# Altium footprint library fyshlib.PcbLib: 9 footprints
Each footprint in its own frame and in the unit in brackets; x right, y up, seen from the top. Pads: shape width x height; smd on the part's side, far side on the other; paste and mask are expansions set on the pad; w line width, h text height; cw(c..) or ccw(c..) is an arc to the next point about the centre after c.
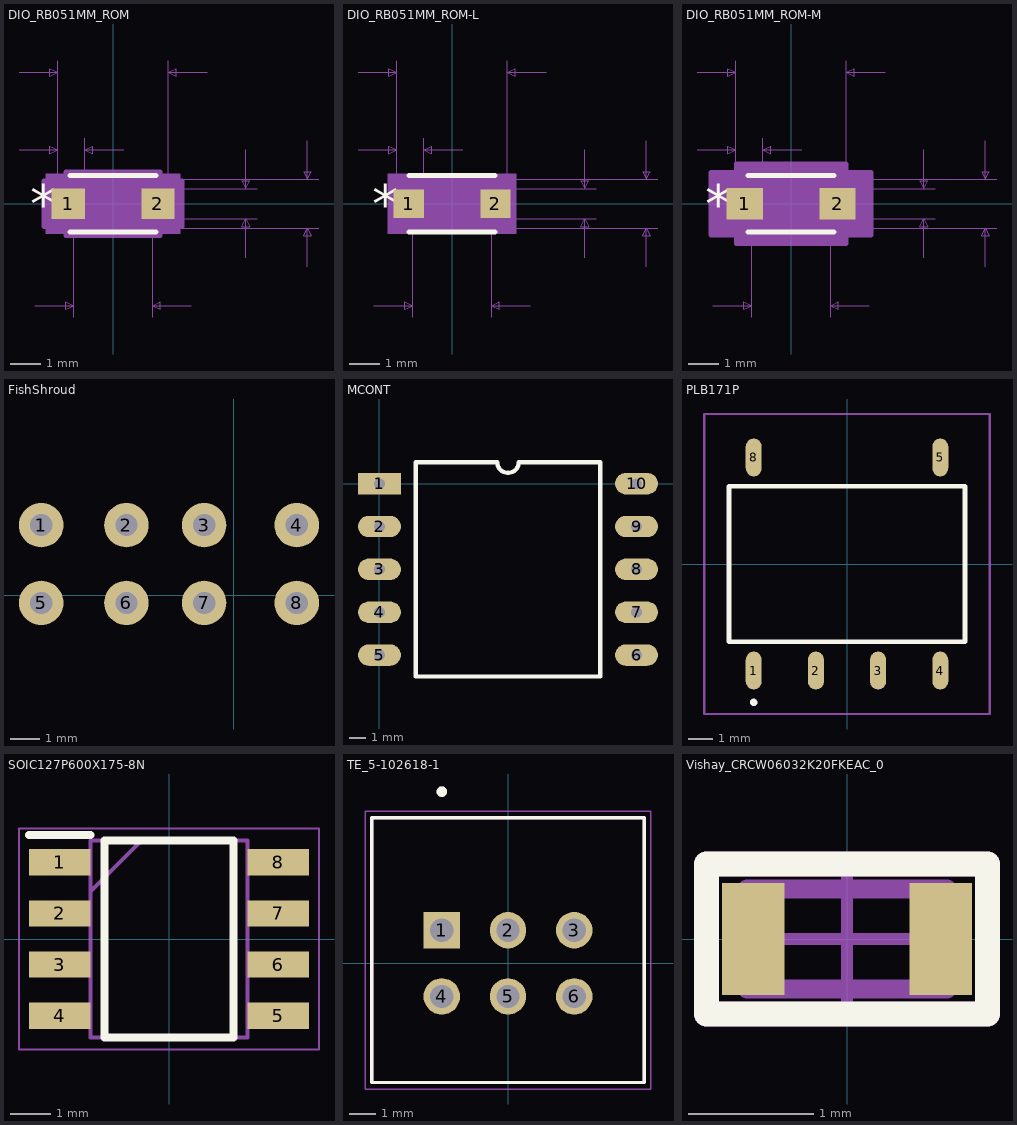
[diagram p0: the footprints below, top view; thin cyan lines are the x and y axes]

## DIO_RB051MM_ROM [mil]
pads (2):
  rect 43x39 smd paste+0 mask+0: 1(-58,0) 2(58,0)
Top Overlay:
  lines w6: -56,-36.5 56,-36.5 ; -56,36.5 56,36.5
  text "*" at -107,-25 h50
Mechanical 5:
  region: 87,-39 -87,-39 -87,39 87,39
Mechanical 7:
  lines w1: -121.5,69.5 -71.5,69.5 ; -121.5,169.5 -71.5,169.5 ; -101,-131.5 -51,-131.5 ; -71.5,84.5 -71.5,0 -71.5,184.5 ; -51,-146.5 -51,0 ; -36.5,0 -36.5,84.5 ; 0,-31.5 266,-31.5 ; 0,31.5 266,31.5 ; 13.5,69.5 -36.5,69.5 ; 51,-146.5 51,0 ; 71.5,-19.5 186.5,-19.5 ; 71.5,0 71.5,184.5 ; 71.5,19.5 186.5,19.5 ; 101,-131.5 51,-131.5 ; 121.5,169.5 71.5,169.5 ; 171.5,-69.5 171.5,-19.5 ; 171.5,69.5 171.5,19.5 ; 251,-81.5 251,-31.5 ; 251,81.5 251,31.5 ; -71.5,69.5 -81.5,64.5 -81.5,74.5 -71.5,69.5 ; -71.5,169.5 -81.5,164.5 -81.5,174.5 -71.5,169.5 ; -51,-131.5 -61,-136.5 -61,-126.5 -51,-131.5 ; -36.5,69.5 -26.5,64.5 -26.5,74.5 -36.5,69.5 ; 51,-131.5 61,-136.5 61,-126.5 51,-131.5 ; 71.5,169.5 81.5,164.5 81.5,174.5 71.5,169.5 ; 171.5,-19.5 176.5,-29.5 166.5,-29.5 171.5,-19.5 ; 171.5,19.5 176.5,29.5 166.5,29.5 171.5,19.5 ; 251,-31.5 256,-41.5 246,-41.5 251,-31.5 ; 251,31.5 256,41.5 246,41.5 251,31.5
  text "0.102in/2.591mm" at -93.75,-176.5 h25
  text "0.063in/1.6mm" at 271,-12.5 h25
  text "0.039in/0.991mm" at 191.5,-12.5 h25
  text "0.035in/0.889mm" at -147.75,89.5 h25
  text "0.143in/3.632mm" at -93.75,189.5 h25
  text "Alt 2 Padstyle: OX90Y60D30P" at -337.5,-494.5 h50
  text "Alt 1 Padstyle: OX60Y90D30P" at -337.5,-419.5 h50
  text "Default Padstyle: RX43Y39D0T" at -350,-344.5 h50
Mechanical 13:
  lines w1: -51,-15.75 -35.25,-31.5 ; -51,15.75 -35.25,31.5 ; -71.5,-19.5 -51,-19.5 -51,19.5 -71.5,19.5 -71.5,-19.5 ; -51,-31.5 -51,31.5 51,31.5 51,-31.5 -51,-31.5 ; 51,-19.5 71.5,-19.5 71.5,19.5 51,19.5 51,-19.5
  text "*" at -53.5,-25 h50
Mechanical 15:
  region: -61,-29.5 -89.5,-29.5 -89.5,29.5 -61,29.5 -61,41.5 61,41.5 61,29.5 89.5,29.5 89.5,-29.5 61,-29.5 61,-41.5 -61,-41.5
  lines w6: -89.5,-29.5 -61,-29.5 -61,-41.5 61,-41.5 61,-29.5 89.5,-29.5 89.5,29.5 61,29.5 61,41.5 -61,41.5 -61,29.5 -89.5,29.5 -89.5,-29.5
3D body "DIO_RB051MM_ROM.step": height 35.24, standoff 0, extent -71.5,-31.5 71.5,31.5

## DIO_RB051MM_ROM-L [mil]
pads (2):
  rect 39x37 smd paste+0 mask+0: 1(-56,0) 2(56,0)
Top Overlay:
  lines w6: -56,-36.5 56,-36.5 ; -56,36.5 56,36.5
  text "*" at -103,-25 h50
Mechanical 5:
  region: 83,-39 -83,-39 -83,39 83,39
Mechanical 7:
  lines w1: -121.5,69.5 -71.5,69.5 ; -121.5,169.5 -71.5,169.5 ; -101,-131.5 -51,-131.5 ; -71.5,84.5 -71.5,0 -71.5,184.5 ; -51,-146.5 -51,0 ; -36.5,0 -36.5,84.5 ; 0,-31.5 266,-31.5 ; 0,31.5 266,31.5 ; 13.5,69.5 -36.5,69.5 ; 51,-146.5 51,0 ; 71.5,-19.5 186.5,-19.5 ; 71.5,0 71.5,184.5 ; 71.5,19.5 186.5,19.5 ; 101,-131.5 51,-131.5 ; 121.5,169.5 71.5,169.5 ; 171.5,-69.5 171.5,-19.5 ; 171.5,69.5 171.5,19.5 ; 251,-81.5 251,-31.5 ; 251,81.5 251,31.5 ; -71.5,69.5 -81.5,64.5 -81.5,74.5 -71.5,69.5 ; -71.5,169.5 -81.5,164.5 -81.5,174.5 -71.5,169.5 ; -51,-131.5 -61,-136.5 -61,-126.5 -51,-131.5 ; -36.5,69.5 -26.5,64.5 -26.5,74.5 -36.5,69.5 ; 51,-131.5 61,-136.5 61,-126.5 51,-131.5 ; 71.5,169.5 81.5,164.5 81.5,174.5 71.5,169.5 ; 171.5,-19.5 176.5,-29.5 166.5,-29.5 171.5,-19.5 ; 171.5,19.5 176.5,29.5 166.5,29.5 171.5,19.5 ; 251,-31.5 256,-41.5 246,-41.5 251,-31.5 ; 251,31.5 256,41.5 246,41.5 251,31.5
  text "0.102in/2.591mm" at -93.75,-176.5 h25
  text "0.063in/1.6mm" at 271,-12.5 h25
  text "0.039in/0.991mm" at 191.5,-12.5 h25
  text "0.035in/0.889mm" at -147.75,89.5 h25
  text "0.143in/3.632mm" at -93.75,189.5 h25
  text "Alt 2 Padstyle: OX90Y60D30P" at -337.5,-493.5 h50
  text "Alt 1 Padstyle: OX60Y90D30P" at -337.5,-418.5 h50
  text "Default Padstyle: RX39Y37D0T" at -350,-343.5 h50
Mechanical 13:
  lines w1: -51,-15.75 -35.25,-31.5 ; -51,15.75 -35.25,31.5 ; -71.5,-19.5 -51,-19.5 -51,19.5 -71.5,19.5 -71.5,-19.5 ; -51,-31.5 -51,31.5 51,31.5 51,-31.5 -51,-31.5 ; 51,-19.5 71.5,-19.5 71.5,19.5 51,19.5 51,-19.5
  text "*" at -53.5,-25 h50
Mechanical 15:
  region: -55,-22.5 -79.5,-22.5 -79.5,22.5 -55,22.5 -55,35.5 55,35.5 55,22.5 79.5,22.5 79.5,-22.5 55,-22.5 55,-35.5 -55,-35.5
  lines w6: -79.5,-22.5 -55,-22.5 -55,-35.5 55,-35.5 55,-22.5 79.5,-22.5 79.5,22.5 55,22.5 55,35.5 -55,35.5 -55,22.5 -79.5,22.5 -79.5,-22.5
3D body "DIO_RB051MM_ROM.step": height 35.24, standoff 0, extent -71.5,-31.5 71.5,31.5

## DIO_RB051MM_ROM-M [mil]
pads (2):
  rect 47x41 smd paste+0 mask+0: 1(-60,0) 2(60,0)
Top Overlay:
  lines w6: -56,-36.5 56,-36.5 ; -56,36.5 56,36.5
  text "*" at -111,-25 h50
Mechanical 5:
  region: 91,-39 -91,-39 -91,39 91,39
Mechanical 7:
  lines w1: -121.5,69.5 -71.5,69.5 ; -121.5,169.5 -71.5,169.5 ; -101,-131.5 -51,-131.5 ; -71.5,84.5 -71.5,0 -71.5,184.5 ; -51,-146.5 -51,0 ; -36.5,0 -36.5,84.5 ; 0,-31.5 266,-31.5 ; 0,31.5 266,31.5 ; 13.5,69.5 -36.5,69.5 ; 51,-146.5 51,0 ; 71.5,-19.5 186.5,-19.5 ; 71.5,0 71.5,184.5 ; 71.5,19.5 186.5,19.5 ; 101,-131.5 51,-131.5 ; 121.5,169.5 71.5,169.5 ; 171.5,-69.5 171.5,-19.5 ; 171.5,69.5 171.5,19.5 ; 251,-81.5 251,-31.5 ; 251,81.5 251,31.5 ; -71.5,69.5 -81.5,64.5 -81.5,74.5 -71.5,69.5 ; -71.5,169.5 -81.5,164.5 -81.5,174.5 -71.5,169.5 ; -51,-131.5 -61,-136.5 -61,-126.5 -51,-131.5 ; -36.5,69.5 -26.5,64.5 -26.5,74.5 -36.5,69.5 ; 51,-131.5 61,-136.5 61,-126.5 51,-131.5 ; 71.5,169.5 81.5,164.5 81.5,174.5 71.5,169.5 ; 171.5,-19.5 176.5,-29.5 166.5,-29.5 171.5,-19.5 ; 171.5,19.5 176.5,29.5 166.5,29.5 171.5,19.5 ; 251,-31.5 256,-41.5 246,-41.5 251,-31.5 ; 251,31.5 256,41.5 246,41.5 251,31.5
  text "0.102in/2.591mm" at -93.75,-176.5 h25
  text "0.063in/1.6mm" at 271,-12.5 h25
  text "0.039in/0.991mm" at 191.5,-12.5 h25
  text "0.035in/0.889mm" at -147.75,89.5 h25
  text "0.143in/3.632mm" at -93.75,189.5 h25
  text "Alt 2 Padstyle: OX90Y60D30P" at -337.5,-495.5 h50
  text "Alt 1 Padstyle: OX60Y90D30P" at -337.5,-420.5 h50
  text "Default Padstyle: RX47Y41D0T" at -350,-345.5 h50
Mechanical 13:
  lines w1: -51,-15.75 -35.25,-31.5 ; -51,15.75 -35.25,31.5 ; -71.5,-19.5 -51,-19.5 -51,19.5 -71.5,19.5 -71.5,-19.5 ; -51,-31.5 -51,31.5 51,31.5 51,-31.5 -51,-31.5 ; 51,-19.5 71.5,-19.5 71.5,19.5 51,19.5 51,-19.5
  text "*" at -53.5,-25 h50
Mechanical 15:
  region: -71,-40.5 -103.5,-40.5 -103.5,40.5 -71,40.5 -71,51.5 71,51.5 71,40.5 103.5,40.5 103.5,-40.5 71,-40.5 71,-51.5 -71,-51.5
  lines w6: -103.5,-40.5 -71,-40.5 -71,-51.5 71,-51.5 71,-40.5 103.5,-40.5 103.5,40.5 71,40.5 71,51.5 -71,51.5 -71,40.5 -103.5,40.5 -103.5,-40.5
3D body "DIO_RB051MM_ROM.step": height 35.24, standoff 0, extent -71.5,-31.5 71.5,31.5

## FishShroud [mil] "Flat Shield"
pads (8):
  round 60 hole 30: 1(-260,95) 2(-145,95) 3(-40,95) 4(85,95) 5(-260,-10) 6(-145,-10) 7(-40,-10) 8(85,-10)

## MCONT [mil]
pads (10):
  rect 100x50 hole 25: 1(0,0)
  oval 100x50 hole 25: 2(0,-100) 3(0,-200) 4(0,-300) 5(0,-400) 6(600,-400) 7(600,-300) 8(600,-200) 9(600,-100) 10(600,0)
Top Overlay:
  lines w10: 85,-450 515,-450 515,50 325,50 cw(c300,50) 275,50 85,50 85,-450

## PLB171P [mm]
pads (6):
  rrect100% 0.65x1.55 smd: 1(-3.81,-4.35) 2(-1.27,-4.35) 3(1.27,-4.35) 4(3.81,-4.35) 5(3.81,4.35) 8(-3.81,4.35)
Top Overlay:
  lines w0.2: -3.81,-5.7 cw(c-3.81,-5.65) -3.81,-5.6 ; -3.81,-5.7 ccw(c-3.81,-5.65) -3.81,-5.6 ; -3.81,-5.7 cw(c-3.81,-5.65) -3.81,-5.6 ; -4.826,-3.175 4.826,-3.175 4.826,3.175 -4.826,3.175 -4.826,-3.175
Mechanical 13:
  lines w0.1: -4.826,-3.175 4.826,-3.175 4.826,3.175 -4.826,3.175 -4.826,-3.175
Mechanical 15:
  lines w0.1: -5.826,-6.125 5.826,-6.125 5.826,6.125 -5.826,6.125 -5.826,-6.125
3D body "PLB171P.stp": height 2.39, standoff 0.1, extent -4.826,-3.175 4.826,3.175

## SOIC127P600X175-8N [mm]
pads (8):
  rect 1.525x0.65 smd: 1(-2.712,1.905) 2(-2.712,0.635) 3(-2.712,-0.635) 4(-2.712,-1.905) 5(2.712,-1.905) 6(2.712,-0.635) 7(2.712,0.635) 8(2.712,1.905)
Top Overlay:
  lines w0.2: -3.475,2.58 -1.95,2.58 ; -1.6,-2.45 -1.6,2.45 1.6,2.45 1.6,-2.45 -1.6,-2.45
Mechanical 13:
  lines w0.1: -1.95,1.18 -0.68,2.45 ; -1.95,-2.45 -1.95,2.45 1.95,2.45 1.95,-2.45 -1.95,-2.45
Mechanical 15:
  lines w0.05: -3.725,-2.75 -3.725,2.75 3.725,2.75 3.725,-2.75 -3.725,-2.75
3D body "NE555DR.stp": height 1.75, standoff 0, extent -3,-2.45 3,2.45

## TE_5-102618-1 [mm]
pads (6):
  rect 1.398x1.398 hole 0.89: 1(-2.54,1.27)
  round 1.398 hole 0.89: 2(0,1.27) 3(2.54,1.27) 4(-2.54,-1.27) 5(0,-1.27) 6(2.54,-1.27)
Top Overlay:
  circle w0.2: c-2.54,6.588 r0.1
  lines w0.127: -5.232,-4.572 5.232,-4.572 5.232,5.588 -5.232,5.588 -5.232,-4.572
Mechanical 13:
  circle w0.2: c-2.54,6.588 r0.1
  lines w0.127: -5.232,-4.572 5.232,-4.572 5.232,5.588 -5.232,5.588 -5.232,-4.572
Mechanical 15:
  lines w0.05: -5.482,-4.822 5.482,-4.822 5.482,5.838 -5.482,5.838 -5.482,-4.822

## Vishay_CRCW06032K20FKEAC_0 [mm]
pads (2):
  rect 0.5x0.9 smd paste+0 mask+0: ""(-0.75,0) ""(0.75,0)
Top Overlay:
  lines w0.2: -1.125,-0.6 -1.125,0.6 1.125,0.6 1.125,-0.6 -1.125,-0.6
Mechanical 10:
  lines w0.2: -1.125,-0.6 -1.125,0.6 1.125,0.6 1.125,-0.6 -1.125,-0.6
  text ".Designator" at 0,0 h1
Mechanical 12:
  lines w0.15: -0.8,-0.4 0.8,-0.4 0.8,0.4 -0.8,0.4 -0.8,-0.4
Mechanical 15:
  lines w0.1: -0.5,0 0.5,0 ; 0,-0.5 0,0.5
  lines w0.2: -1.125,-0.6 -1.125,0.6 1.125,0.6 1.125,-0.6 -1.125,-0.6